# Altium footprint library stm8电机控制原理图.PcbLib: 34 footprints (part 3 of 3)
Each footprint in its own frame and in the unit in brackets; x right, y up, seen from the top. Pads: shape width x height; smd on the part's side, far side on the other; paste and mask are expansions set on the pad; w line width, h text height; cw(c..) or ccw(c..) is an arc to the next point about the centre after c.
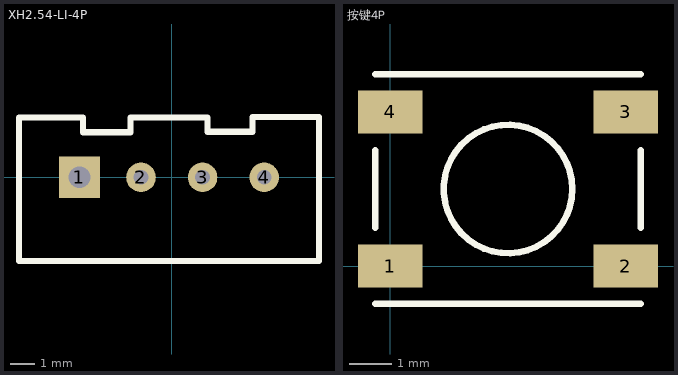
[diagram p2: the footprints below, top view; thin cyan lines are the x and y axes]

## XH2.54-LI-4P [mil] "接插件，4P"
height 322.83
pads (4):
  rect 66.93x66.93 hole 35.43: 1(-150,0)
  round 48 hole 24: 2(-50,0) 3(50,0) 4(150,0)
Top Overlay:
  lines w10: -248,-136 -248,97 -144,97 -144,73 -67,73 -67,97 58,97 58,74 131,74 131,98 239,98 239,-136 -248,-136
3D body "XH2.54-4P.STEP": height 276.77, standoff -97.24, extent -248.43,-129.92 248.43,94.49

## 按键4P [mm]
pads (4):
  rect 1.5x1 smd: 1(0,0) 2(5.5,0) 3(5.5,3.6) 4(0,3.6)
Top Overlay:
  circle w0.15: c2.75,1.8 r1.5
  lines w0.15: -0.35,-0.873 5.85,-0.873 ; -0.35,0.9 -0.35,2.7 ; -0.35,4.473 5.85,4.473 ; 5.85,0.9 5.85,2.7